# Altium schematic symbol library Resistor.SchLib: 4 symbols
Pins are listed as number, name and electrical type; pins without a type are passive.

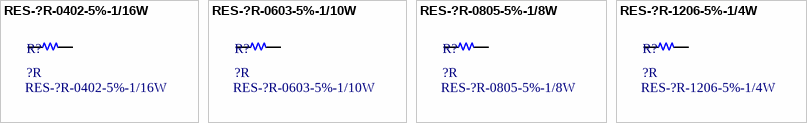
[diagram p0: symbols RES-?R-0402-5%-1/16W to RES-?R-1206-5%-1/4W]

## RES-?R-0402-5%-1/16W
designator R?, comment ?R
RES-?R-0402-5%-1/16W; Manufacturer: UniOhm; Note: SMT; Package: 0402 (1005 Metric); Supplier: tme.vn; Value: ?R; Unit Price: 0; Stock Description: RES-?R-0402-5%-1/16W
footprint R 0402 (Chip Resistor, 2-Leads, Body 1.0x0.5mm, IPC Medium Density)
pins: 1, 2

## RES-?R-0603-5%-1/10W
designator R?, comment ?R
RES-?R-0603-5%-1/10W; Manufacturer: UniOhm; Note: SMT; Package: 0603 (1608 Metric); Supplier: tme.vn; Value: ?R; Unit Price: 0; Stock Description: RES-?R-0603-5%-1/10W
footprint R 0603 (Chip Resistor, 2-Leads, Body 1.6x0.8mm, IPC Medium Density)
pins: 1, 2

## RES-?R-0805-5%-1/8W
designator R?, comment ?R
RES-?R-0805-5%-1/8W; Manufacturer: UniOhm; Note: SMT; Package: 0805 (2012 Metric); Supplier: tme.vn; Value: ?R; Unit Price: 0; Stock Description: RES-?R-0805-5%-1/8W
footprint R 0805 (Chip Resistor, 2-Leads, Body 2.0x1.3mm, IPC Medium Density)
pins: 1, 2

## RES-?R-1206-5%-1/4W
designator R?, comment ?R
RES-?R-1206-5%-1/4W; Manufacturer: UniOhm; Note: SMT; Package: 1206 (3216 Metric); Supplier: tme.vn; Value: ?R; Unit Price: 0; Stock Description: RES-?R-1206-5%-1/4W
footprint R 1206 (Chip Resistor, 2-Leads, Body 3.1x1.6mm, IPC Medium Density)
pins: 1, 2